# Altium footprint library pimoroni-boards2040.PCBLIB: 1 footprints
Each footprint in its own frame and in the unit in brackets; x right, y up, seen from the top. Pads: shape width x height; smd on the part's side, far side on the other; paste and mask are expansions set on the pad; w line width, h text height; cw(c..) or ccw(c..) is an arc to the next point about the centre after c.
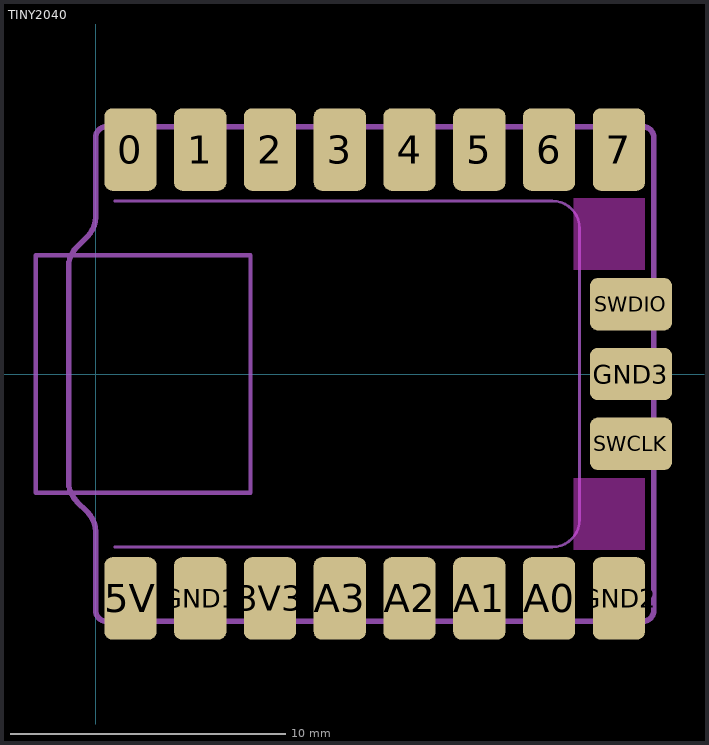
[diagram p0: the footprint, top view; thin cyan lines are the x and y axes]

## TINY2040 [mm]
pads (19):
  rrect30% 1.9x3 smd: 0(1.27,8.17) 1(3.81,8.17) 2(6.35,8.17) 3(8.89,8.17) 3V3(6.35,-8.17) 4(11.43,8.17) 5(13.97,8.17) 5V(1.27,-8.17) 6(16.51,8.17) 7(19.05,8.17) A0(16.51,-8.17) A1(13.97,-8.17) A2(11.43,-8.17) A3(8.89,-8.17) GND1(3.81,-8.17) GND2(19.05,-8.17)
  rrect30% 3x1.9 smd: GND3(19.49,0) SWCLK(19.49,-2.54) SWDIO(19.49,2.54)
Top keep-out:
  region: 17.4,3.8 17.4,6.4 20,6.4 20,3.8
  region: 17.4,-6.4 17.4,-3.8 20,-3.8 20,-6.4
Dimension:
  lines w0.1: 0.7,-6.3 16.62,-6.3 ccw(c16.62,-5.3) 17.62,-5.3 17.62,5.3 ccw(c16.62,5.3) 16.62,6.3 0.7,6.3
tDocu:
  lines w0.01: -0.375,4.32 1.225,4.32 ; 3.555,-4.32 5.645,-4.32 5.655,-4.32 ; 3.555,4.32 5.645,4.32 5.655,4.32
  lines w0.152: -2.175,-4.32 5.645,-4.32 5.645,4.32 -2.175,4.32 -2.175,-4.32
tPlace:
  lines w0.2: -0.98,-3.926 ccw(c0.02,-3.926) -0.687,-4.633 -0.293,-5.027 cw(c-1,-5.734) 0,-5.734 0,-8.6 ccw(c0.4,-8.6) 0.4,-9 19.92,-9 ccw(c19.92,-8.6) 20.32,-8.6 20.32,8.6 ccw(c19.92,8.6) 19.92,9 0.4,9 ccw(c0.4,8.6) 0,8.6 0,5.714 cw(c-1,5.714) -0.293,5.007 -0.687,4.613 ccw(c0.02,3.906) -0.98,3.906 -0.98,-3.926